# EAGLE library part RN4020 (library talons)
RN4020 Bluetooth Low Energy Module http://www.microchip.com/wwwproducts/Devices.aspx?product=RN4020
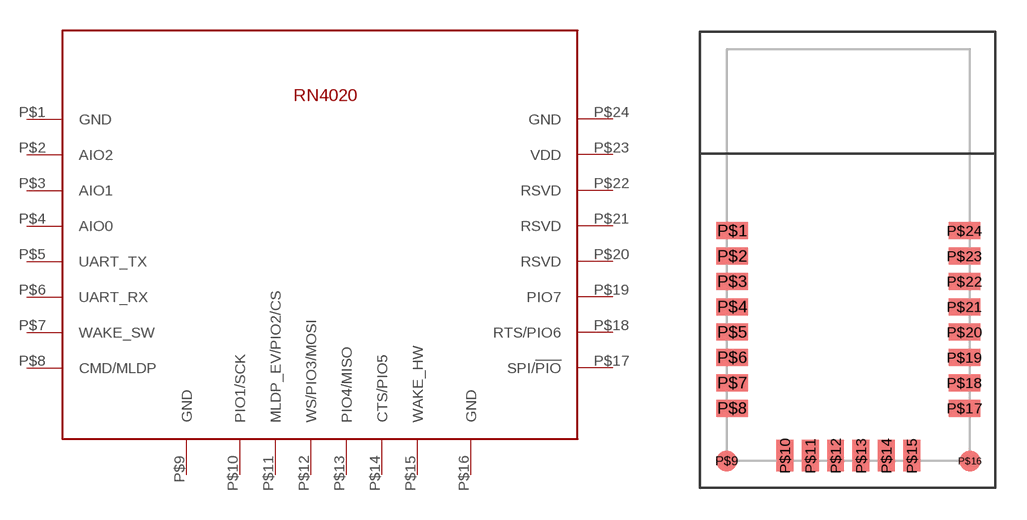
[diagram p3: symbol with the pads of RN4020; footprint RN4020]

Designator prefix U

## RN4020  [RN4020]
P$1  GND  pwr
P$2  AIO2
P$3  AIO1
P$4  AIO0
P$5  UART_TX  out
P$6  UART_RX  in
P$7  WAKE_SW  in
P$8  CMD/MLDP  in
P$9  GND  pwr
P$10  PIO1/SCK
P$11  MLDP_EV/PIO2/CS
P$12  WS/PIO3/MOSI
P$13  PIO4/MISO
P$14  CTS/PIO5
P$15  WAKE_HW
P$16  GND  pwr
P$17  SPI/!PIO  in
P$18  RTS/PIO6
P$19  PIO7
P$20  RSVD  nc
P$21  RSVD  nc
P$22  RSVD  nc
P$23  VDD  pwr
P$24  GND  pwr

## Footprint RN4020 (pad centres in mm)
smd 1.5 x 0.8: P$1 0.25,10.9; P$2 0.25,9.7; P$3 0.25,8.5; P$4 0.25,7.3; P$5 0.25,6.1; P$6 0.25,4.9; P$7 0.25,3.7; P$8 0.25,2.5; P$17 11.25,2.5; P$18 11.25,3.7; P$19 11.25,4.9; P$20 11.25,6.1; P$21 11.25,7.3; P$22 11.25,8.5; P$23 11.25,9.7; P$24 11.25,10.9
smd 1 x 1: P$9 0,0; P$16 11.5,0
smd 0.8 x 1.5: P$10 2.75,0.25; P$11 3.95,0.25; P$12 5.15,0.25; P$13 6.35,0.25; P$14 7.55,0.25; P$15 8.75,0.25